# Altium footprint library SDCard.PcbLib: 2 footprints
Each footprint in its own frame and in the unit in brackets; x right, y up, seen from the top. Pads: shape width x height; smd on the part's side, far side on the other; paste and mask are expansions set on the pad; w line width, h text height; cw(c..) or ccw(c..) is an arc to the next point about the centre after c.
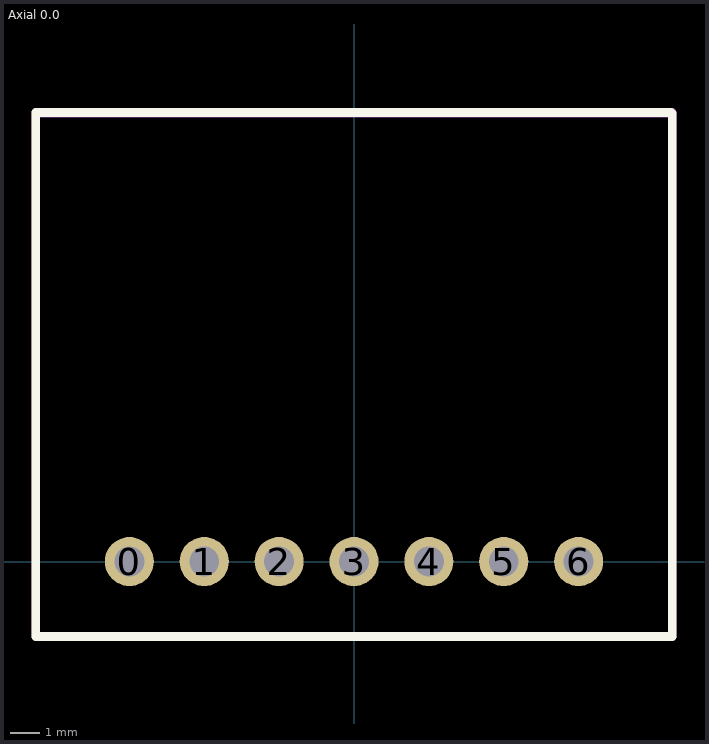
[diagram p0: the footprints below, top view; thin cyan lines are the x and y axes]

## Axial 0.0 [mm]
pads (7):
  round 1.665 hole 1.016: 0(-7.62,0) 1(-5.08,0) 2(-2.54,0) 3(0,0) 4(2.54,0) 5(5.08,0) 6(7.62,0)
Top Overlay:
  lines w0.3: -10.795,-2.54 10.795,-2.54 10.795,15.189 ccw(c10.77,15.189) 10.77,15.215 ccw(c10.744,15.215) 10.744,15.24 -10.795,15.24 -10.795,-2.54
Top Assembly:
  lines w0.3: -10.795,-2.54 10.795,-2.54 10.795,15.24 -10.795,15.24 -10.795,-2.54
Top Courtyard:
  lines w0.3: -10.795,-2.489 ccw(c-10.744,-2.489) -10.744,-2.54 10.795,-2.54 10.795,15.24 cw(c10.77,15.24) 10.77,15.215 -10.77,15.215 ccw(c-10.77,15.189) -10.795,15.189 -10.795,-2.489

## PCBComponent_1 [mil]